# Altium footprint library 3pinheader.PcbLib: 1 footprints
Each footprint in its own frame and in the unit in brackets; x right, y up, seen from the top. Pads: shape width x height; smd on the part's side, far side on the other; paste and mask are expansions set on the pad; w line width, h text height; cw(c..) or ccw(c..) is an arc to the next point about the centre after c.
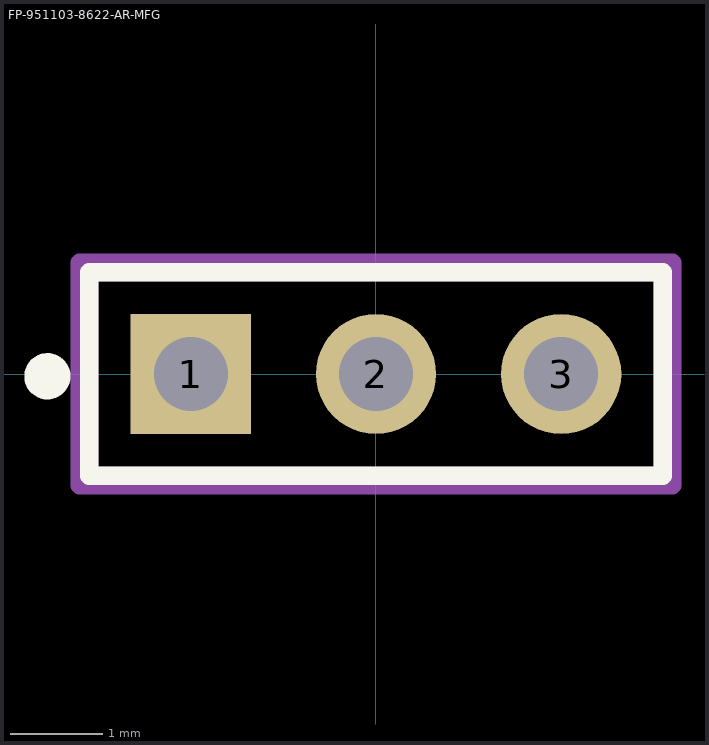
[diagram p0: the footprint, top view; thin cyan lines are the x and y axes]

## FP-951103-8622-AR-MFG [mm]
pads (3):
  rect 1.3x1.3 hole 0.8 paste-1000 mask+0: 1(-2,0)
  round 1.3 hole 0.8 paste-1000 mask+0: 2(0,0) 3(2,0)
Top Overlay:
  circle w0.25: c-3.55,-0.025 r0.125
  lines w0.2: -3.1,-1.1 -3.1,1.1 3.1,1.1 3.1,-1.1 -3.1,-1.1
Top Assembly:
  lines w0.2: -3.2,-1.2 -3.2,1.2 3.2,1.2 3.2,-1.2 -3.2,-1.2
  text ".Designator" at 0,-0.001 h1
Top 3D Body:
  lines w0.2: -3.1,-1.1 -3.1,1.1 3.1,1.1 3.1,-1.1 -3.1,-1.1
Top Courtyard:
  lines w0.2: -3.2,-1.2 -3.2,1.2 3.2,1.2 3.2,-1.2 -3.2,-1.2
Top Component Center:
  lines w0.1: -0.5,0 0.5,0 ; 0,-0.5 0,0.5
3D body "Conn_3M_951103-8622-AR_eec.STEP": height 0.25, standoff 0, extent -3.2,-1.2 3.2,1.2